# EAGLE library part CLX6F-FKC (library bschulz_Old)
Cree RBG LED, PLCC6 Package (Small Layout)
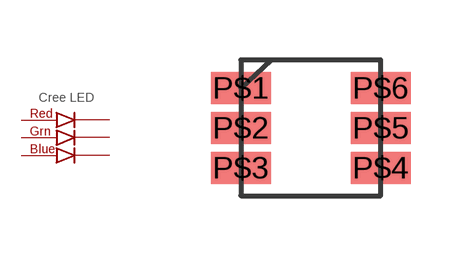
[diagram p13: symbol with the pads of CLX6F-FKC; footprint CLX6F-FKC]

Designator prefix -

## CLX6F-FKC  [CLX6F-FKC]
P$1  4
P$2  5
P$3  6
P$4  1
P$5  2
P$6  3

## Footprint CLX6F-FKC (pad centres in mm)
smd 1.5 x 0.8: P$1 -1.75,1; P$2 -1.75,0; P$3 -1.75,-1; P$4 1.75,-1; P$5 1.75,0; P$6 1.75,1